# EAGLE library part CP2110 (library CP21xx)
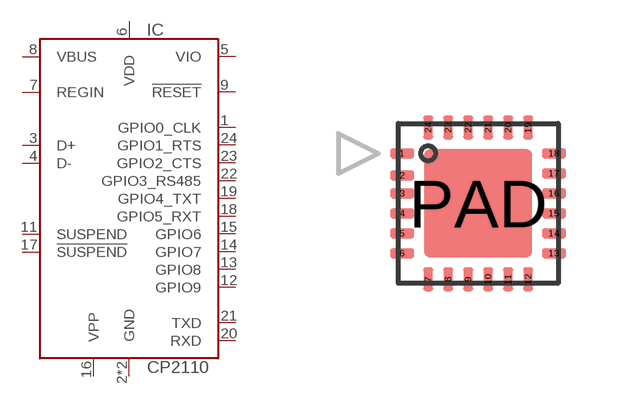
[diagram p0: symbol with the pads of QFN24-0.5-4X4; footprint QFN24-0.5-4X4]

Designator prefix IC

## CP2110-GM (MF: Silicon Labs; MPN: CP2110-F01-GM)  [QFN24-0.5-4X4]
1  GPIO0_CLK
2  GND  pwr
3  D+
4  D-
5  VIO  in
6  VDD  pwr
7  REGIN  in
8  VBUS  in
9  !RESET  oc
11  SUSPEND  out
12  GPIO9
13  GPIO8
14  GPIO7
15  GPIO6
16  VPP
17  !SUSPEND  out
18  GPIO5_RXT
19  GPIO4_TXT
20  RXD  in
21  TXD  out
22  GPIO3_RS485
23  GPIO2_CTS
24  GPIO1_RTS
PAD  GND  pwr

## Footprint QFN24-0.5-4X4 (pad centres in mm)
smd 0.6 x 0.24: 1 -1.9,1.25; 2 -1.9,0.7; 3 -1.9,0.25; 4 -1.9,-0.25; 5 -1.9,-0.75; 6 -1.9,-1.25; 13 1.9,-1.25; 14 1.9,-0.75; 15 1.9,-0.25; 16 1.9,0.25; 17 1.9,0.75; 18 1.9,1.25
smd 0.24 x 0.6: 7 -1.25,-1.9; 8 -0.75,-1.9; 9 -0.25,-1.9; 10 0.25,-1.9; 11 0.75,-1.9; 12 1.25,-1.9; 19 1.25,1.9; 20 0.75,1.9; 21 0.25,1.9; 22 -0.25,1.9; 23 -0.75,1.9; 24 -1.25,1.9
smd 2.7 x 2.7: PAD 0,0